# EAGLE library part CORTEX_DEBUG_TRACE (library added_parts)
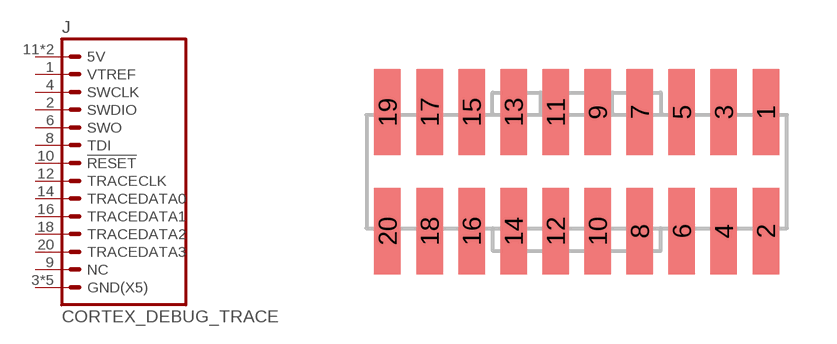
[diagram p26: symbol with the pads of FTSH-110; footprint FTSH-110]

Designator prefix J

## CORTEX_DEBUG_TRACE  [FTSH-110]
1  VTREF  pas
2  SWDIO
3  GND(X5)  sup
4  SWCLK  out
5  GND(X5)  sup
6  SWO  in
8  TDI  out
9  NC  nc
10  !RESET
11  5V  sup
12  TRACECLK  in
13  5V  sup
14  TRACEDATA0  in
15  GND(X5)  sup
16  TRACEDATA1  in
17  GND(X5)  sup
18  TRACEDATA2  in
19  GND(X5)  sup
20  TRACEDATA3  in

## Footprint FTSH-110 (pad centres in mm)
smd 0.8 x 2.6: 1 5.715,1.8; 2 5.715,-1.8; 3 4.445,1.8; 4 4.445,-1.8; 5 3.175,1.8; 6 3.175,-1.8; 7 1.905,1.8; 8 1.905,-1.8; 9 0.635,1.8; 10 0.635,-1.8; 11 -0.635,1.8; 12 -0.635,-1.8; 13 -1.905,1.8; 14 -1.905,-1.8; 15 -3.175,1.8; 16 -3.175,-1.8; 17 -4.445,1.8; 18 -4.445,-1.8; 19 -5.715,1.8; 20 -5.715,-1.8